# Altium schematic symbol library QUTMS_JumperLibrary.SchLib: 9 symbols
Pins are listed as number, name and electrical type; pins without a type are passive.

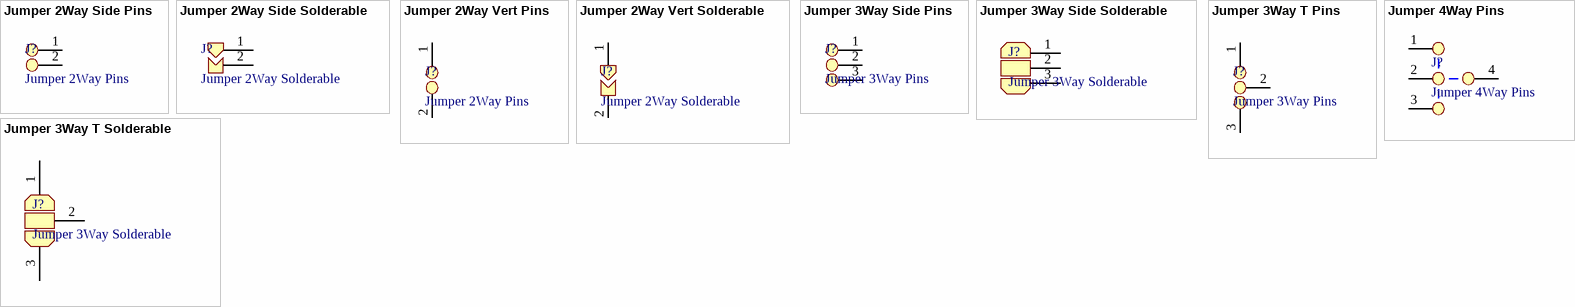
[diagram p0: symbols Jumper 2Way Side Pins to Jumper 4Way Pins]

## Jumper 2Way Side Pins
designator J?, comment Jumper 2Way Pins
Jumper 2Way Side Pins
footprint Jumper_2Way_Pin
pins: 1, 2

## Jumper 2Way Side Solderable
designator J?, comment Jumper 2Way Solderable
Jumper 2Way Side Solderable
footprint Jumper_2Way_Solderable
pins: 1, 2

## Jumper 2Way Vert Pins
designator J?, comment Jumper 2Way Pins
Jumper 2Way Vert Pins
footprint Jumper_2Way_Pin
pins: 1, 2

## Jumper 2Way Vert Solderable
designator J?, comment Jumper 2Way Solderable
Jumper 2Way Vert Solderable
footprint Jumper_2Way_Solderable
pins: 1, 2

## Jumper 3Way Side Pins
designator J?, comment Jumper 3Way Pins
Jumper 3Way Side Pins
footprint Jumper_3Way_Pin
pins: 1, 2, 3

## Jumper 3Way Side Solderable
designator J?, comment Jumper 3Way Solderable
Jumper 3Way Side Solderable
footprint Jumper_3Way_Solderable
pins: 1, 2, 3

## Jumper 3Way T Pins
designator J?, comment Jumper 3Way Pins
Jumper 3Way T Pins
footprint Jumper_3Way_Pin
pins: 1, 2, 3

## Jumper 3Way T Solderable
designator J?, comment Jumper 3Way Solderable
Jumper 3Way T Solderable
footprint Jumper_3Way_Solderable
pins: 1, 2, 3

## Jumper 4Way Pins
designator J?
footprint Jumper_4Way_Pin
pins: 1, 2, 3, 4